# Altium integrated library Diodes - TVS.IntLib: 5379 symbols (part 70 of 122)
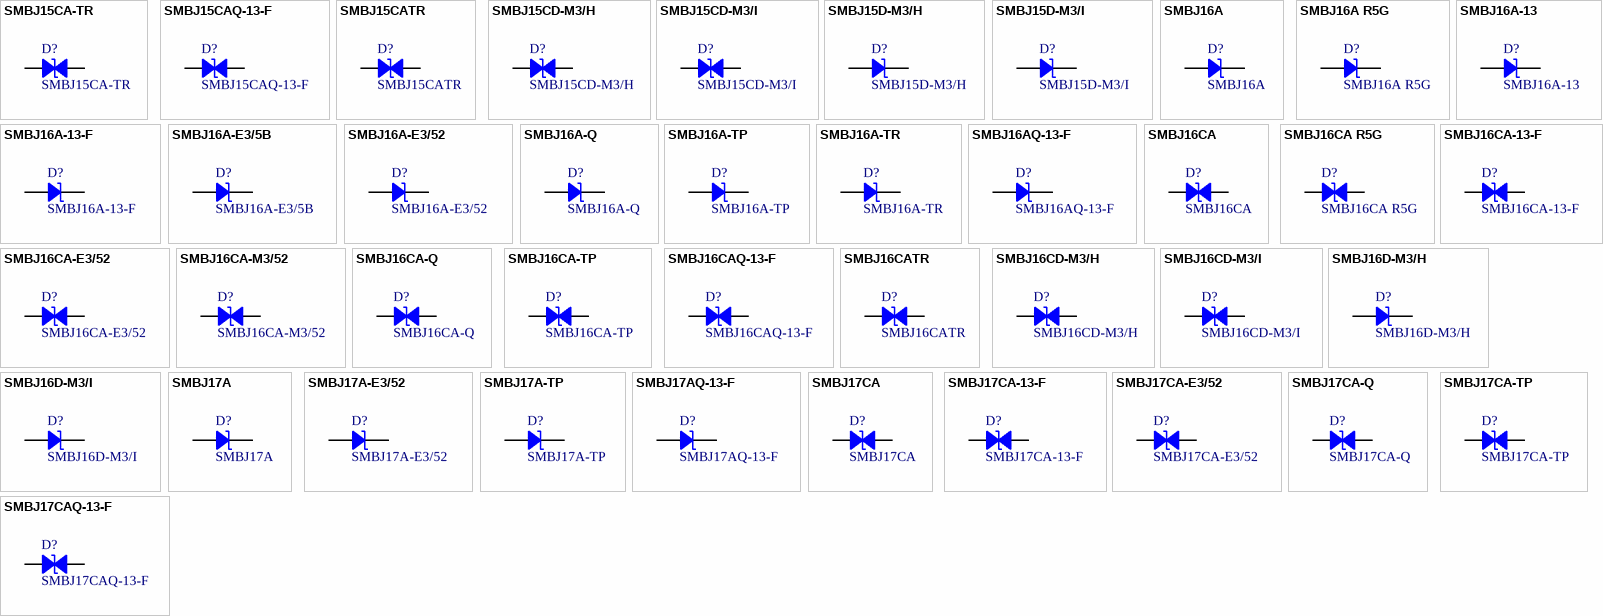
[diagram p203: symbols SMBJ15CA-TR to SMBJ17CAQ-13-F]

## SMBJ16A-Q
designator D?
TVS DIODE 16V 26V SMB; Manufacturer: Bourns Inc.; Current - Peak Pulse (10/1000µs): 23.1A; Power Line Protection: No; Power - Peak Pulse: 600W; Type: Zener; Unidirectional Channels: 1; Voltage - Breakdown (Min): 17.8V; Part Number: SMBJ16A-Q; Applications: Automotive; ComponentLink1Description: Datasheet; ComponentLink1URL: https://www.bourns.com/docs/Product-Datasheets/SMBJ-Q.pdf; ComponentLink2Description: DigiKey Link; ComponentLink2URL: http://digikey.com/product-detail/en/bourns-inc/SMBJ16A-Q/SMBJ16A-QCT-ND/10222710; LastUpdated: 9/2/2020 1:19:45 AM; Lifecycle Status: Active; Minimum Order: 1; Mounting Type: Surface Mount; Operating Temperature: -55°C ~ 150°C (TJ); Package / Case: DO-214AA, SMB; Packaging: TapeAndReel; PartId: 10727; Part Status: Active; Price: 0.14; Series: Automotive, AEC-Q101, SMBJ; Supplier 1: DigiKey; Supplier Part Number 1: SMBJ16A-QCT-ND; Supplier Device Package: SMB (DO-214AA); Voltage - Clamping (Max) @ Ipp: 26V; Voltage - Reverse Standoff (Typ): 16V
footprint DO214AA SMB
pins: 1, 2

## SMBJ16A-TP
designator D?
TVS DIODE 16V 26V DO214AA; Manufacturer: Micro Commercial Co; Current - Peak Pulse (10/1000µs): 23.1A; Power Line Protection: No; Power - Peak Pulse: 600W; Type: Zener; Unidirectional Channels: 1; Voltage - Breakdown (Min): 17.8V; Part Number: SMBJ16A-TP; Applications: General Purpose; ComponentLink1Description: Datasheet; ComponentLink1URL: https://www.mccsemi.com/pdf/Products/SMBJ5.0-SMBJ440CA(DO-214AA).pdf; ComponentLink2Description: DigiKey Link; ComponentLink2URL: http://digikey.com/product-detail/en/micro-commercial-co/SMBJ16A-TP/SMBJ16A-TPMSCT-ND/1200660; LastUpdated: 9/2/2020 1:19:48 AM; Lifecycle Status: Active; Minimum Order: 1; Mounting Type: Surface Mount; Operating Temperature: -55°C ~ 175°C (TJ); Package / Case: DO-214AA, SMB; Packaging: TapeAndReel; PartId: 11055; Part Status: Active; Price: 0.10; Series: -; Supplier 1: DigiKey; Supplier Part Number 1: SMBJ16A-TPMSCT-ND; Supplier Device Package: DO-214AA (SMB); Voltage - Clamping (Max) @ Ipp: 26V; Voltage - Reverse Standoff (Typ): 16V
footprint DO214AA SMB
pins: 1, 2

## SMBJ16A-TR
designator D?
TVS DIODE 16VWM 26VC SMB; Manufacturer: STMicroelectronics; Current - Peak Pulse (10/1000µs): 23.1A; Power Line Protection: No; Power - Peak Pulse: 600W; Type: Zener; Unidirectional Channels: 1; Voltage - Breakdown (Min): 17.8V; Voltage - Clamping (Max) @ Ipp: 26V; Voltage - Reverse Standoff (Typ): 16V; Part Number: SMBJ16A-TR; Applications: General Purpose; ComponentLink1Description: Datasheet; ComponentLink1URL: http://www.st.com/content/ccc/resource/technical/document/datasheet/19/78/91/39/07/cd/40/65/CD00001366.pdf/files/CD00001366.pdf/_jcr_content/translations/en.CD00001366.pdf; ComponentLink2Description: DigiKey Link; ComponentLink2URL: http://digikey.com/product-detail/en/stmicroelectronics/SMBJ16A-TR/497-4293-1-ND/725569; LastUpdated: 9/2/2020 1:19:50 AM; Lifecycle Status: Active; Minimum Order: 1; Mounting Type: Surface Mount; Operating Temperature: -55°C ~ 150°C (TJ); Package / Case: DO-214AA, SMB; Packaging: TapeAndReel; PartId: 11228; Part Status: Active; Price: 0.10; Series: SMBJ, TRANSIL™; Supplier 1: DigiKey; Supplier Part Number 1: 497-4293-1-ND; Supplier Device Package: SMB (DO-214AA)
footprint DO214AA SMB
pins: 1, 2

## SMBJ16AQ-13-F
designator D?
TRANSIENT VOLTAGE SUPPRESSOR,SMB; Manufacturer: Diodes Incorporated; Current - Peak Pulse (10/1000µs): 23.1A; Power Line Protection: No; Power - Peak Pulse: 600W; Type: Zener; Unidirectional Channels: 1; Voltage - Breakdown (Min): 17.8V; Voltage - Clamping (Max) @ Ipp: 26V; Voltage - Reverse Standoff (Typ): 16V; Part Number: SMBJ16AQ-13-F; Applications: Automotive; ComponentLink1Description: Datasheet; ComponentLink1URL: https://www.diodes.com/assets/Datasheets/ds40740.pdf; ComponentLink2Description: DigiKey Link; ComponentLink2URL: http://digikey.com/product-detail/en/diodes-incorporated/SMBJ16AQ-13-F/SMBJ16AQ-13-FDICT-ND/9738909; LastUpdated: 9/2/2020 1:19:49 AM; Lifecycle Status: Active; Minimum Order: 1; Mounting Type: Surface Mount; Operating Temperature: -55°C ~ 150°C (TJ); Package / Case: DO-214AA, SMB; Packaging: TapeAndReel; PartId: 11168; Part Status: Active; Price: 0.13; Series: Automotive, AEC-Q101; Supplier 1: DigiKey; Supplier Part Number 1: SMBJ16AQ-13-FDICT-ND; Supplier Device Package: SMB
footprint DO214AA SMB
pins: 1, 2

## SMBJ16CA
designator D?
TVS DIODE 16V 26V SMB; Manufacturer: Bourns Inc.; Bidirectional Channels: 1; Current - Peak Pulse (10/1000µs): 23.1A; Power Line Protection: No; Power - Peak Pulse: 600W; Type: Zener; Voltage - Breakdown (Min): 17.8V; Part Number: SMBJ16CA; Applications: General Purpose; ComponentLink1Description: Datasheet; ComponentLink1URL: https://www.bourns.com/docs/Product-Datasheets/SMBJ.pdf; ComponentLink2Description: DigiKey Link; ComponentLink2URL: http://digikey.com/product-detail/en/bourns-inc/SMBJ16CA/SMBJ16CABCT-ND/2254157; LastUpdated: 9/2/2020 1:28:19 AM; Lifecycle Status: Active; Minimum Order: 1; Mounting Type: Surface Mount; Operating Temperature: -55°C ~ 150°C (TJ); Package / Case: DO-214AA, SMB; Packaging: TapeAndReel; PartId: 9269; Part Status: Active; Price: 0.10; Series: SMBJ; Supplier 1: DigiKey; Supplier Part Number 1: SMBJ16CABCT-ND; Supplier Device Package: SMB (DO-214AA); Voltage - Clamping (Max) @ Ipp: 26V; Voltage - Reverse Standoff (Typ): 16V
footprint DO214AA SMB
pins: 1, 2

## SMBJ16CA R5G
designator D?
TVS DIODE 16V 26V DO214AA; Manufacturer: Taiwan Semiconductor Corporation; Bidirectional Channels: 1; Current - Peak Pulse (10/1000µs): 24.2A; Power Line Protection: No; Power - Peak Pulse: 600W; Type: Zener; Voltage - Breakdown (Min): 17.8V; Part Number: SMBJ16CA R5G; Applications: General Purpose; ComponentLink1Description: Datasheet; ComponentLink1URL: https://www.taiwansemi.com/products/datasheet/SMBJ5V0CA_F%20SERIES_A1806.pdf; ComponentLink2Description: DigiKey Link; ComponentLink2URL: http://digikey.com/product-detail/en/taiwan-semiconductor-corporation/SMBJ16CA-R5G/SMBJ16CAR5GCT-ND/7359084; LastUpdated: 9/2/2020 1:28:19 AM; Lifecycle Status: Active; Minimum Order: 0; Mounting Type: Surface Mount; Operating Temperature: -55°C ~ 150°C (TJ); Package / Case: DO-214AA, SMB; Packaging: TapeAndReel; PartId: 9232; Part Status: Active; Price: 0.20; Series: SMBJ; Supplier 1: DigiKey; Supplier Part Number 1: SMBJ16CAR5GCT-ND; Supplier Device Package: DO-214AA (SMB); Voltage - Clamping (Max) @ Ipp: 26V; Voltage - Reverse Standoff (Typ): 16V
footprint DO214AA SMB
pins: 1, 2

## SMBJ16CA-13-F
designator D?
TVS DIODE 16V 26V SMB; Manufacturer: Diodes Incorporated; Bidirectional Channels: 1; Current - Peak Pulse (10/1000µs): 23.1A; Power Line Protection: No; Power - Peak Pulse: 600W; Type: Zener; Voltage - Breakdown (Min): 17.8V; Part Number: SMBJ16CA-13-F; Applications: General Purpose; ComponentLink1Description: Datasheet; ComponentLink1URL: https://www.diodes.com/assets/Datasheets/ds19002.pdf; ComponentLink2Description: DigiKey Link; ComponentLink2URL: http://digikey.com/product-detail/en/diodes-incorporated/SMBJ16CA-13-F/SMBJ16CA-FDICT-ND/816063; LastUpdated: 9/2/2020 1:28:19 AM; Lifecycle Status: Active; Minimum Order: 1; Mounting Type: Surface Mount; Operating Temperature: -55°C ~ 150°C (TJ); Package / Case: DO-214AA, SMB; Packaging: TapeAndReel; PartId: 9285; Part Status: Active; Price: 0.10; Series: SMBJ; Supplier 1: DigiKey; Supplier Part Number 1: SMBJ16CA-FDICT-ND; Supplier Device Package: SMB; Voltage - Clamping (Max) @ Ipp: 26V; Voltage - Reverse Standoff (Typ): 16V
footprint DO214AA SMB
pins: 1, 2

## SMBJ16CA-E3/52
designator D?
TVS DIODE 16V 26V DO214AA; Manufacturer: Vishay Semiconductor Diodes Division; Bidirectional Channels: 1; Current - Peak Pulse (10/1000µs): 23.1A; Power Line Protection: No; Power - Peak Pulse: 600W; Type: Zener; Voltage - Breakdown (Min): 17.8V; Part Number: SMBJ16CA-E3/52; Applications: General Purpose; ComponentLink1Description: Datasheet; ComponentLink1URL: http://www.vishay.com/docs/88392/smbj.pdf; ComponentLink2Description: DigiKey Link; ComponentLink2URL: http://digikey.com/product-detail/en/vishay-semiconductor-diodes-division/SMBJ16CA-E3-52/SMBJ16CA-E3-52GICT-ND/2413394; LastUpdated: 9/2/2020 1:28:21 AM; Lifecycle Status: Active; Minimum Order: 1; Mounting Type: Surface Mount; Operating Temperature: -55°C ~ 150°C (TJ); Package / Case: DO-214AA, SMB; Packaging: TapeAndReel; PartId: 9512; Part Status: Active; Price: 0.14; Series: TransZorb®; Supplier 1: DigiKey; Supplier Part Number 1: SMBJ16CA-E3/52GICT-ND; Supplier Device Package: DO-214AA (SMBJ); Voltage - Clamping (Max) @ Ipp: 26V; Voltage - Reverse Standoff (Typ): 16V
footprint DO214AA SMB
pins: 1, 2

## SMBJ16CA-M3/52
designator D?
TVS DIODE 16V 26V DO214AA; Manufacturer: Vishay Semiconductor Diodes Division; Bidirectional Channels: 1; Current - Peak Pulse (10/1000µs): 23.1A; Power Line Protection: No; Power - Peak Pulse: 600W; Type: Zener; Voltage - Breakdown (Min): 17.8V; Part Number: SMBJ16CA-M3/52; Applications: General Purpose; ComponentLink1Description: Datasheet; ComponentLink1URL: http://www.vishay.com/docs/88392/smbj.pdf; ComponentLink2Description: DigiKey Link; ComponentLink2URL: http://digikey.com/product-detail/en/vishay-semiconductor-diodes-division/SMBJ16CA-M3-52/SMBJ16CA-M3-52GICT-ND/4990353; LastUpdated: 9/2/2020 1:28:21 AM; Lifecycle Status: Active; Minimum Order: 1; Mounting Type: Surface Mount; Operating Temperature: -55°C ~ 150°C (TJ); Package / Case: DO-214AA, SMB; Packaging: TapeAndReel; PartId: 9581; Part Status: Active; Price: 0.29; Series: TransZorb®; Supplier 1: DigiKey; Supplier Part Number 1: SMBJ16CA-M3/52GICT-ND; Supplier Device Package: DO-214AA (SMBJ); Voltage - Clamping (Max) @ Ipp: 26V; Voltage - Reverse Standoff (Typ): 16V
footprint DO214AA SMB
pins: 1, 2

## SMBJ16CA-Q
designator D?
TVS DIODE 16V 26V SMB; Manufacturer: Bourns Inc.; Bidirectional Channels: 1; Current - Peak Pulse (10/1000µs): 23.1A; Power Line Protection: No; Power - Peak Pulse: 600W; Type: Zener; Voltage - Breakdown (Min): 17.8V; Part Number: SMBJ16CA-Q; Applications: Automotive; ComponentLink1Description: Datasheet; ComponentLink1URL: https://www.bourns.com/docs/Product-Datasheets/SMBJ-Q.pdf; ComponentLink2Description: DigiKey Link; ComponentLink2URL: http://digikey.com/product-detail/en/bourns-inc/SMBJ16CA-Q/SMBJ16CA-QCT-ND/10222711; LastUpdated: 9/2/2020 1:28:21 AM; Lifecycle Status: Active; Minimum Order: 1; Mounting Type: Surface Mount; Operating Temperature: -55°C ~ 150°C (TJ); Package / Case: DO-214AA, SMB; Packaging: TapeAndReel; PartId: 9545; Part Status: Active; Price: 0.15; Series: Automotive, AEC-Q101, SMBJ; Supplier 1: DigiKey; Supplier Part Number 1: SMBJ16CA-QCT-ND; Supplier Device Package: SMB (DO-214AA); Voltage - Clamping (Max) @ Ipp: 26V; Voltage - Reverse Standoff (Typ): 16V
footprint DO214AA SMB
pins: 1, 2

## SMBJ16CA-TP
designator D?
TVS DIODE 16V 26V DO214AA; Manufacturer: Micro Commercial Co; Bidirectional Channels: 1; Current - Peak Pulse (10/1000µs): 23.1A; Power Line Protection: No; Power - Peak Pulse: 600W; Type: Zener; Voltage - Breakdown (Min): 17.8V; Part Number: SMBJ16CA-TP; Applications: General Purpose; ComponentLink1Description: Datasheet; ComponentLink1URL: https://www.mccsemi.com/pdf/Products/SMBJ5.0-SMBJ440CA(DO-214AA).pdf; ComponentLink2Description: DigiKey Link; ComponentLink2URL: http://digikey.com/product-detail/en/micro-commercial-co/SMBJ16CA-TP/SMBJ16CA-TPMSCT-ND/1200661; LastUpdated: 9/2/2020 1:28:18 AM; Lifecycle Status: Active; Minimum Order: 1; Mounting Type: Surface Mount; Operating Temperature: -55°C ~ 175°C (TJ); Package / Case: DO-214AA, SMB; Packaging: TapeAndReel; PartId: 9196; Part Status: Active; Price: 0.10; Series: -; Supplier 1: DigiKey; Supplier Part Number 1: SMBJ16CA-TPMSCT-ND; Supplier Device Package: DO-214AA (SMB); Voltage - Clamping (Max) @ Ipp: 26V; Voltage - Reverse Standoff (Typ): 16V
footprint DO214AA SMB
pins: 1, 2

## SMBJ16CAQ-13-F
designator D?
TRANSIENT VOLTAGE SUPPRESSOR,SMB; Manufacturer: Diodes Incorporated; Bidirectional Channels: 1; Current - Peak Pulse (10/1000µs): 23.1A; Power Line Protection: No; Power - Peak Pulse: 600W; Type: Zener; Voltage - Breakdown (Min): 17.8V; Voltage - Clamping (Max) @ Ipp: 26V; Voltage - Reverse Standoff (Typ): 16V; Part Number: SMBJ16CAQ-13-F; Applications: Automotive; ComponentLink1Description: Datasheet; ComponentLink1URL: https://www.diodes.com/assets/Datasheets/ds40740.pdf; ComponentLink2Description: DigiKey Link; ComponentLink2URL: http://digikey.com/product-detail/en/diodes-incorporated/SMBJ16CAQ-13-F/SMBJ16CAQ-13-FDICT-ND/9738922; LastUpdated: 9/2/2020 1:28:17 AM; Lifecycle Status: Active; Minimum Order: 1; Mounting Type: Surface Mount; Operating Temperature: -55°C ~ 150°C (TJ); Package / Case: DO-214AA, SMB; Packaging: TapeAndReel; PartId: 9072; Part Status: Active; Price: 0.14; Series: Automotive, AEC-Q101; Supplier 1: DigiKey; Supplier Part Number 1: SMBJ16CAQ-13-FDICT-ND; Supplier Device Package: SMB
footprint DO214AA SMB
pins: 1, 2

## SMBJ16CATR
designator D?
TVS DIODE 16V 26V SMB; Manufacturer: SMC Diode Solutions; Bidirectional Channels: 1; Current - Peak Pulse (10/1000µs): 23.1A; Power Line Protection: No; Power - Peak Pulse: 600W; Type: Zener; Voltage - Breakdown (Min): 17.8V; Part Number: SMBJ16CATR; Applications: General Purpose; ComponentLink1Description: Datasheet; ComponentLink1URL: http://www.smc-diodes.com/propdf/SMBJ%20SERIES%20N0193%20REV.D.pdf; ComponentLink2Description: DigiKey Link; ComponentLink2URL: http://digikey.com/product-detail/en/smc-diode-solutions/SMBJ16CATR/1655-2284-1-ND/10384674; LastUpdated: 9/2/2020 1:28:19 AM; Lifecycle Status: Active; Minimum Order: 1; Mounting Type: Surface Mount; Operating Temperature: -55°C ~ 150°C (TJ); Package / Case: DO-214AA, SMB; Packaging: TapeAndReel; PartId: 9237; Part Status: Active; Price: 0.09; Series: -; Supplier 1: DigiKey; Supplier Part Number 1: 1655-2284-1-ND; Supplier Device Package: SMB (DO-214AA); Voltage - Clamping (Max) @ Ipp: 26V; Voltage - Reverse Standoff (Typ): 16V
footprint DO214AA SMB
pins: 1, 2

## SMBJ16CD-M3/H
designator D?
TVS DIODE 16V 25.6V DO214AA; Manufacturer: Vishay Semiconductor Diodes Division; Bidirectional Channels: 1; Current - Peak Pulse (10/1000µs): 23.4A; Power Line Protection: No; Power - Peak Pulse: 600W; Type: Zener; Voltage - Breakdown (Min): 18.1V; Part Number: SMBJ16CD-M3/H; Applications: General Purpose; ComponentLink1Description: Datasheet; ComponentLink1URL: http://www.vishay.com/docs/87606/87606.pdf; ComponentLink2Description: DigiKey Link; ComponentLink2URL: http://digikey.com/product-detail/en/vishay-semiconductor-diodes-division/SMBJ16CD-M3-H/SMBJ16CD-M3-HGICT-ND/5880119; LastUpdated: 9/2/2020 1:28:20 AM; Lifecycle Status: Active; Minimum Order: 1; Mounting Type: Surface Mount; Operating Temperature: -55°C ~ 150°C (TJ); Package / Case: DO-214AA, SMB; Packaging: TapeAndReel; PartId: 9348; Part Status: Active; Price: 0.20; Series: TransZorb®; Supplier 1: DigiKey; Supplier Part Number 1: SMBJ16CD-M3/HGICT-ND; Supplier Device Package: DO-214AA (SMBJ); Voltage - Clamping (Max) @ Ipp: 25.6V; Voltage - Reverse Standoff (Typ): 16V
footprint DO214AA SMB
pins: 1, 2

## SMBJ16CD-M3/I
designator D?
TVS DIODE 16V 25.6V DO214AA; Manufacturer: Vishay Semiconductor Diodes Division; Bidirectional Channels: 1; Current - Peak Pulse (10/1000µs): 23.4A; Power Line Protection: No; Power - Peak Pulse: 600W; Type: Zener; Voltage - Breakdown (Min): 18.1V; Part Number: SMBJ16CD-M3/I; Applications: General Purpose; ComponentLink1Description: Datasheet; ComponentLink1URL: http://www.vishay.com/docs/87606/87606.pdf; ComponentLink2Description: DigiKey Link; ComponentLink2URL: http://digikey.com/product-detail/en/vishay-semiconductor-diodes-division/SMBJ16CD-M3-I/SMBJ16CD-M3-IGICT-ND/9648415; LastUpdated: 9/2/2020 1:28:21 AM; Lifecycle Status: Active; Minimum Order: 1; Mounting Type: Surface Mount; Operating Temperature: -55°C ~ 150°C (TJ); Package / Case: DO-214AA, SMB; Packaging: TapeAndReel; PartId: 9490; Part Status: Active; Price: 0.13; Series: TransZorb®; Supplier 1: DigiKey; Supplier Part Number 1: SMBJ16CD-M3/IGICT-ND; Supplier Device Package: DO-214AA (SMBJ); Voltage - Clamping (Max) @ Ipp: 25.6V; Voltage - Reverse Standoff (Typ): 16V
footprint DO214AA SMB
pins: 1, 2

## SMBJ16D-M3/H
designator D?
TVS DIODE 16V 25.6V DO214AA; Manufacturer: Vishay Semiconductor Diodes Division; Current - Peak Pulse (10/1000µs): 23.4A; Power Line Protection: No; Power - Peak Pulse: 600W; Type: Zener; Unidirectional Channels: 1; Voltage - Breakdown (Min): 18.1V; Part Number: SMBJ16D-M3/H; Applications: General Purpose; ComponentLink1Description: Datasheet; ComponentLink1URL: http://www.vishay.com/docs/87606/87606.pdf; ComponentLink2Description: DigiKey Link; ComponentLink2URL: http://digikey.com/product-detail/en/vishay-semiconductor-diodes-division/SMBJ16D-M3-H/SMBJ16D-M3-HGICT-ND/5253064; LastUpdated: 9/2/2020 1:19:43 AM; Lifecycle Status: Active; Minimum Order: 1; Mounting Type: Surface Mount; Operating Temperature: -55°C ~ 150°C (TJ); Package / Case: DO-214AA, SMB; Packaging: TapeAndReel; PartId: 10609; Part Status: Active; Price: 0.15; Series: TransZorb®; Supplier 1: DigiKey; Supplier Part Number 1: SMBJ16D-M3/HGICT-ND; Supplier Device Package: DO-214AA (SMBJ); Voltage - Clamping (Max) @ Ipp: 25.6V; Voltage - Reverse Standoff (Typ): 16V
footprint DO214AA SMB
pins: 1, 2

## SMBJ16D-M3/I
designator D?
TVS DIODE 16V 25.6V DO214AA; Manufacturer: Vishay Semiconductor Diodes Division; Current - Peak Pulse (10/1000µs): 23.4A; Power Line Protection: No; Power - Peak Pulse: 600W; Type: Zener; Unidirectional Channels: 1; Voltage - Breakdown (Min): 18.1V; Part Number: SMBJ16D-M3/I; Applications: General Purpose; ComponentLink1Description: Datasheet; ComponentLink1URL: http://www.vishay.com/docs/87606/87606.pdf; ComponentLink2Description: DigiKey Link; ComponentLink2URL: http://digikey.com/product-detail/en/vishay-semiconductor-diodes-division/SMBJ16D-M3-I/SMBJ16D-M3-IGICT-ND/9648416; LastUpdated: 9/2/2020 1:19:47 AM; Lifecycle Status: Active; Minimum Order: 1; Mounting Type: Surface Mount; Operating Temperature: -55°C ~ 150°C (TJ); Package / Case: DO-214AA, SMB; Packaging: TapeAndReel; PartId: 10942; Part Status: Active; Price: 0.11; Series: TransZorb®; Supplier 1: DigiKey; Supplier Part Number 1: SMBJ16D-M3/IGICT-ND; Supplier Device Package: DO-214AA (SMBJ); Voltage - Clamping (Max) @ Ipp: 25.6V; Voltage - Reverse Standoff (Typ): 16V
footprint DO214AA SMB
pins: 1, 2

## SMBJ17A
designator D?
TVS DIODE 17V 27.6V DO214AA; Manufacturer: Taiwan Semiconductor Corporation; Current - Peak Pulse (10/1000µs): 21.7A; Power Line Protection: No; Power - Peak Pulse: 600W; Type: Zener; Unidirectional Channels: 1; Voltage - Breakdown (Min): 18.9V; Part Number: SMBJ17A; Applications: General Purpose; ComponentLink1Description: Datasheet; ComponentLink1URL: https://www.taiwansemi.com/products/datasheet/SMBJ%20SERIES_P1812.pdf; ComponentLink2Description: DigiKey Link; ComponentLink2URL: http://digikey.com/product-detail/en/taiwan-semiconductor-corporation/SMBJ17A/SMBJ17AFSCT-ND/3907891; LastUpdated: 9/2/2020 1:19:49 AM; Lifecycle Status: Active; Minimum Order: 1; Mounting Type: Surface Mount; Operating Temperature: -55°C ~ 150°C (TJ); Package / Case: DO-214AA, SMB; Packaging: TapeAndReel; PartId: 11181; Part Status: Active; Price: 0.13; Series: SMBJ; Supplier 1: DigiKey; Supplier Part Number 1: SMBJ17AFSCT-ND; Supplier Device Package: DO-214AA (SMB); Voltage - Clamping (Max) @ Ipp: 27.6V; Voltage - Reverse Standoff (Typ): 17V
footprint DO214AA SMB
pins: 1, 2

## SMBJ17A-E3/52
designator D?
TVS DIODE 17V 27.6V DO214AA; Manufacturer: Vishay Semiconductor Diodes Division; Current - Peak Pulse (10/1000µs): 21.7A; Power Line Protection: No; Power - Peak Pulse: 600W; Type: Zener; Unidirectional Channels: 1; Voltage - Breakdown (Min): 18.9V; Part Number: SMBJ17A-E3/52; Applications: General Purpose; ComponentLink1Description: Datasheet; ComponentLink1URL: http://www.vishay.com/docs/88392/smbj.pdf; ComponentLink2Description: DigiKey Link; ComponentLink2URL: http://digikey.com/product-detail/en/vishay-semiconductor-diodes-division/SMBJ17A-E3-52/SMBJ17A-E3-52GICT-ND/2413401; LastUpdated: 9/2/2020 1:19:49 AM; Lifecycle Status: Active; Minimum Order: 1; Mounting Type: Surface Mount; Operating Temperature: -55°C ~ 150°C (TJ); Package / Case: DO-214AA, SMB; Packaging: TapeAndReel; PartId: 11104; Part Status: Active; Price: 0.15; Series: TransZorb®; Supplier 1: DigiKey; Supplier Part Number 1: SMBJ17A-E3/52GICT-ND; Supplier Device Package: DO-214AA (SMBJ); Voltage - Clamping (Max) @ Ipp: 27.6V; Voltage - Reverse Standoff (Typ): 17V
footprint DO214AA SMB
pins: 1, 2

## SMBJ17A-TP
designator D?
TVS DIODE 17V 27.6V DO214AA; Manufacturer: Micro Commercial Co; Current - Peak Pulse (10/1000µs): 21.7A; Power Line Protection: No; Power - Peak Pulse: 600W; Type: Zener; Unidirectional Channels: 1; Voltage - Breakdown (Min): 18.9V; Part Number: SMBJ17A-TP; Applications: General Purpose; ComponentLink1Description: Datasheet; ComponentLink1URL: https://www.mccsemi.com/pdf/Products/SMBJ5.0-SMBJ440CA(DO-214AA).pdf; ComponentLink2Description: DigiKey Link; ComponentLink2URL: http://digikey.com/product-detail/en/micro-commercial-co/SMBJ17A-TP/SMBJ17A-TPMSCT-ND/1200662; LastUpdated: 9/2/2020 1:19:50 AM; Lifecycle Status: Active; Minimum Order: 1; Mounting Type: Surface Mount; Operating Temperature: -55°C ~ 175°C (TJ); Package / Case: DO-214AA, SMB; Packaging: TapeAndReel; PartId: 11272; Part Status: Active; Price: 0.10; Series: -; Supplier 1: DigiKey; Supplier Part Number 1: SMBJ17A-TPMSCT-ND; Supplier Device Package: DO-214AA (SMB); Voltage - Clamping (Max) @ Ipp: 27.6V; Voltage - Reverse Standoff (Typ): 17V
footprint DO214AA SMB
pins: 1, 2

## SMBJ17AQ-13-F
designator D?
TRANSIENT VOLTAGE SUPPRESSOR,SMB; Manufacturer: Diodes Incorporated; Current - Peak Pulse (10/1000µs): 21.7A; Power Line Protection: No; Power - Peak Pulse: 600W; Type: Zener; Unidirectional Channels: 1; Voltage - Breakdown (Min): 18.9V; Voltage - Clamping (Max) @ Ipp: 27.6V; Voltage - Reverse Standoff (Typ): 17V; Part Number: SMBJ17AQ-13-F; Applications: Automotive; ComponentLink1Description: Datasheet; ComponentLink1URL: https://www.diodes.com/assets/Datasheets/ds40740.pdf; ComponentLink2Description: DigiKey Link; ComponentLink2URL: http://digikey.com/product-detail/en/diodes-incorporated/SMBJ17AQ-13-F/SMBJ17AQ-13-FDICT-ND/9738910; LastUpdated: 9/2/2020 1:19:49 AM; Lifecycle Status: Active; Minimum Order: 1; Mounting Type: Surface Mount; Operating Temperature: -55°C ~ 150°C (TJ); Package / Case: DO-214AA, SMB; Packaging: TapeAndReel; PartId: 11169; Part Status: Active; Price: 0.13; Series: Automotive, AEC-Q101; Supplier 1: DigiKey; Supplier Part Number 1: SMBJ17AQ-13-FDICT-ND; Supplier Device Package: SMB
footprint DO214AA SMB
pins: 1, 2

## SMBJ17CA
designator D?
TVS DIODE 17V 27.6V SMB; Manufacturer: Bourns Inc.; Bidirectional Channels: 1; Current - Peak Pulse (10/1000µs): 21.8A; Power Line Protection: No; Power - Peak Pulse: 600W; Type: Zener; Voltage - Breakdown (Min): 18.9V; Part Number: SMBJ17CA; Applications: General Purpose; ComponentLink1Description: Datasheet; ComponentLink1URL: https://www.bourns.com/docs/Product-Datasheets/SMBJ.pdf; ComponentLink2Description: DigiKey Link; ComponentLink2URL: http://digikey.com/product-detail/en/bourns-inc/SMBJ17CA/SMBJ17CABCT-ND/2254183; LastUpdated: 9/2/2020 1:28:15 AM; Lifecycle Status: Active; Minimum Order: 1; Mounting Type: Surface Mount; Operating Temperature: -55°C ~ 150°C (TJ); Package / Case: DO-214AA, SMB; Packaging: TapeAndReel; PartId: 8886; Part Status: Active; Price: 0.10; Series: SMBJ; Supplier 1: DigiKey; Supplier Part Number 1: SMBJ17CABCT-ND; Supplier Device Package: SMB (DO-214AA); Voltage - Clamping (Max) @ Ipp: 27.6V; Voltage - Reverse Standoff (Typ): 17V
footprint DO214AA SMB
pins: 1, 2

## SMBJ17CA-13-F
designator D?
TVS DIODE 17V 27.6V SMB; Manufacturer: Diodes Incorporated; Bidirectional Channels: 1; Current - Peak Pulse (10/1000µs): 21.7A; Power Line Protection: No; Power - Peak Pulse: 600W; Type: Zener; Voltage - Breakdown (Min): 18.9V; Part Number: SMBJ17CA-13-F; Applications: General Purpose; ComponentLink1Description: Datasheet; ComponentLink1URL: https://www.diodes.com/assets/Datasheets/ds19002.pdf; ComponentLink2Description: DigiKey Link; ComponentLink2URL: http://digikey.com/product-detail/en/diodes-incorporated/SMBJ17CA-13-F/SMBJ17CA-FDICT-ND/816066; LastUpdated: 9/2/2020 1:28:19 AM; Lifecycle Status: Active; Minimum Order: 1; Mounting Type: Surface Mount; Operating Temperature: -55°C ~ 150°C (TJ); Package / Case: DO-214AA, SMB; Packaging: TapeAndReel; PartId: 9295; Part Status: Active; Price: 0.10; Series: SMBJ; Supplier 1: DigiKey; Supplier Part Number 1: SMBJ17CA-FDICT-ND; Supplier Device Package: SMB; Voltage - Clamping (Max) @ Ipp: 27.6V; Voltage - Reverse Standoff (Typ): 17V
footprint DO214AA SMB
pins: 1, 2

## SMBJ17CA-E3/52
designator D?
TVS DIODE 17V 27.6V DO214AA; Manufacturer: Vishay Semiconductor Diodes Division; Bidirectional Channels: 1; Current - Peak Pulse (10/1000µs): 21.7A; Power Line Protection: No; Power - Peak Pulse: 600W; Type: Zener; Voltage - Breakdown (Min): 18.9V; Part Number: SMBJ17CA-E3/52; Applications: General Purpose; ComponentLink1Description: Datasheet; ComponentLink1URL: http://www.vishay.com/docs/88392/smbj.pdf; ComponentLink2Description: DigiKey Link; ComponentLink2URL: http://digikey.com/product-detail/en/vishay-semiconductor-diodes-division/SMBJ17CA-E3-52/SMBJ17CA-E3-52GICT-ND/2413458; LastUpdated: 9/2/2020 1:28:20 AM; Lifecycle Status: Active; Minimum Order: 1; Mounting Type: Surface Mount; Operating Temperature: -55°C ~ 150°C (TJ); Package / Case: DO-214AA, SMB; Packaging: TapeAndReel; PartId: 9356; Part Status: Active; Price: 0.19; Series: TransZorb®; Supplier 1: DigiKey; Supplier Part Number 1: SMBJ17CA-E3/52GICT-ND; Supplier Device Package: DO-214AA (SMBJ); Voltage - Clamping (Max) @ Ipp: 27.6V; Voltage - Reverse Standoff (Typ): 17V
footprint DO214AA SMB
pins: 1, 2

## SMBJ17CA-Q
designator D?
TVS DIODE 17V 27.6V SMB; Manufacturer: Bourns Inc.; Bidirectional Channels: 1; Current - Peak Pulse (10/1000µs): 21.8A; Power Line Protection: No; Power - Peak Pulse: 600W; Type: Zener; Voltage - Breakdown (Min): 18.9V; Part Number: SMBJ17CA-Q; Applications: Automotive; ComponentLink1Description: Datasheet; ComponentLink1URL: https://www.bourns.com/docs/Product-Datasheets/SMBJ-Q.pdf; ComponentLink2Description: DigiKey Link; ComponentLink2URL: http://digikey.com/product-detail/en/bourns-inc/SMBJ17CA-Q/SMBJ17CA-QCT-ND/10222712; LastUpdated: 9/2/2020 1:28:17 AM; Lifecycle Status: Active; Minimum Order: 1; Mounting Type: Surface Mount; Operating Temperature: -55°C ~ 150°C (TJ); Package / Case: DO-214AA, SMB; Packaging: TapeAndReel; PartId: 9061; Part Status: Active; Price: 0.15; Series: Automotive, AEC-Q101, SMBJ; Supplier 1: DigiKey; Supplier Part Number 1: SMBJ17CA-QCT-ND; Supplier Device Package: SMB (DO-214AA); Voltage - Clamping (Max) @ Ipp: 27.6V; Voltage - Reverse Standoff (Typ): 17V
footprint DO214AA SMB
pins: 1, 2

## SMBJ17CA-TP
designator D?
TVS DIODE 17V 27.6V DO214AA; Manufacturer: Micro Commercial Co; Bidirectional Channels: 1; Current - Peak Pulse (10/1000µs): 21.7A; Power Line Protection: No; Power - Peak Pulse: 600W; Type: Zener; Voltage - Breakdown (Min): 18.9V; Part Number: SMBJ17CA-TP; Applications: General Purpose; ComponentLink1Description: Datasheet; ComponentLink1URL: https://www.mccsemi.com/pdf/Products/SMBJ5.0-SMBJ440CA(DO-214AA).pdf; ComponentLink2Description: DigiKey Link; ComponentLink2URL: http://digikey.com/product-detail/en/micro-commercial-co/SMBJ17CA-TP/SMBJ17CA-TPMSCT-ND/1200663; LastUpdated: 9/2/2020 1:28:18 AM; Lifecycle Status: Active; Minimum Order: 1; Mounting Type: Surface Mount; Operating Temperature: -55°C ~ 175°C (TJ); Package / Case: DO-214AA, SMB; Packaging: TapeAndReel; PartId: 9188; Part Status: Active; Price: 0.10; Series: -; Supplier 1: DigiKey; Supplier Part Number 1: SMBJ17CA-TPMSCT-ND; Supplier Device Package: DO-214AA (SMB); Voltage - Clamping (Max) @ Ipp: 27.6V; Voltage - Reverse Standoff (Typ): 17V
footprint DO214AA SMB
pins: 1, 2

## SMBJ17CAQ-13-F
designator D?
TRANSIENT VOLTAGE SUPPRESSOR,SMB; Manufacturer: Diodes Incorporated; Bidirectional Channels: 1; Current - Peak Pulse (10/1000µs): 21.7A; Power Line Protection: No; Power - Peak Pulse: 600W; Type: Zener; Voltage - Breakdown (Min): 18.9V; Voltage - Clamping (Max) @ Ipp: 27.6V; Voltage - Reverse Standoff (Typ): 17V; Part Number: SMBJ17CAQ-13-F; Applications: Automotive; ComponentLink1Description: Datasheet; ComponentLink1URL: https://www.diodes.com/assets/Datasheets/ds40740.pdf; ComponentLink2Description: DigiKey Link; ComponentLink2URL: http://digikey.com/product-detail/en/diodes-incorporated/SMBJ17CAQ-13-F/SMBJ17CAQ-13-FDICT-ND/9738923; LastUpdated: 9/2/2020 1:28:17 AM; Lifecycle Status: Active; Minimum Order: 1; Mounting Type: Surface Mount; Operating Temperature: -55°C ~ 150°C (TJ); Package / Case: DO-214AA, SMB; Packaging: TapeAndReel; PartId: 9071; Part Status: Active; Price: 0.14; Series: Automotive, AEC-Q101; Supplier 1: DigiKey; Supplier Part Number 1: SMBJ17CAQ-13-FDICT-ND; Supplier Device Package: SMB
footprint DO214AA SMB
pins: 1, 2

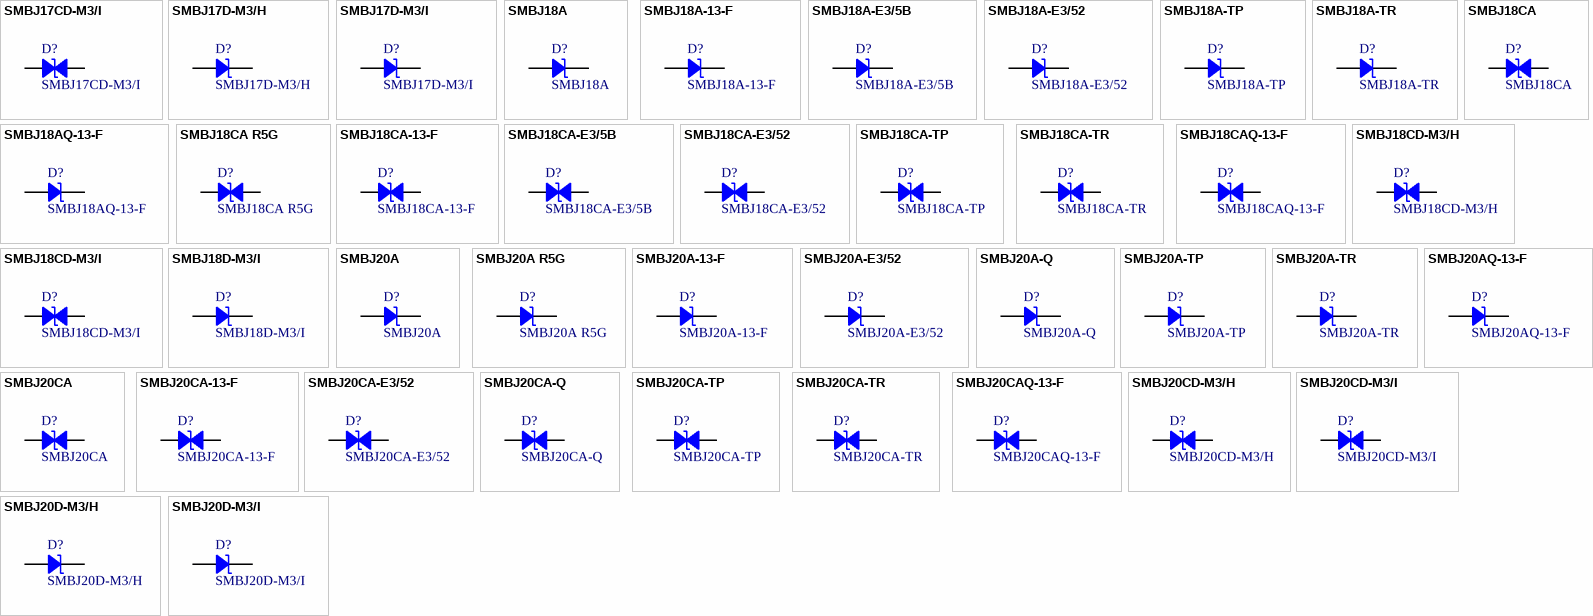
[diagram p77: symbols SMBJ17CD-M3/I to SMBJ20D-M3/I]

## SMBJ17CD-M3/I
designator D?
TVS DIODE 17V 27.2V DO214AA; Manufacturer: Vishay Semiconductor Diodes Division; Bidirectional Channels: 1; Current - Peak Pulse (10/1000µs): 22.1A; Power Line Protection: No; Power - Peak Pulse: 600W; Type: Zener; Voltage - Breakdown (Min): 19.2V; Part Number: SMBJ17CD-M3/I; Applications: General Purpose; ComponentLink1Description: Datasheet; ComponentLink1URL: http://www.vishay.com/docs/87606/87606.pdf; ComponentLink2Description: DigiKey Link; ComponentLink2URL: http://digikey.com/product-detail/en/vishay-semiconductor-diodes-division/SMBJ17CD-M3-I/SMBJ17CD-M3-IGICT-ND/9648418; LastUpdated: 9/2/2020 1:28:21 AM; Lifecycle Status: Active; Minimum Order: 1; Mounting Type: Surface Mount; Operating Temperature: -55°C ~ 150°C (TJ); Package / Case: DO-214AA, SMB; Packaging: TapeAndReel; PartId: 9483; Part Status: Active; Price: 0.13; Series: TransZorb®; Supplier 1: DigiKey; Supplier Part Number 1: SMBJ17CD-M3/IGICT-ND; Supplier Device Package: DO-214AA (SMBJ); Voltage - Clamping (Max) @ Ipp: 27.2V; Voltage - Reverse Standoff (Typ): 17V
footprint DO214AA SMB
pins: 1, 2

## SMBJ17D-M3/H
designator D?
TVS DIODE 17V 27.2V DO214AA; Manufacturer: Vishay Semiconductor Diodes Division; Current - Peak Pulse (10/1000µs): 22.1A; Power Line Protection: No; Power - Peak Pulse: 600W; Type: Zener; Unidirectional Channels: 1; Voltage - Breakdown (Min): 19.2V; Part Number: SMBJ17D-M3/H; Applications: General Purpose; ComponentLink1Description: Datasheet; ComponentLink1URL: http://www.vishay.com/docs/87606/87606.pdf; ComponentLink2Description: DigiKey Link; ComponentLink2URL: http://digikey.com/product-detail/en/vishay-semiconductor-diodes-division/SMBJ17D-M3-H/SMBJ17D-M3-HGICT-ND/5253065; LastUpdated: 9/2/2020 1:19:44 AM; Lifecycle Status: Active; Minimum Order: 1; Mounting Type: Surface Mount; Operating Temperature: -55°C ~ 150°C (TJ); Package / Case: DO-214AA, SMB; Packaging: TapeAndReel; PartId: 10620; Part Status: Active; Price: 0.15; Series: TransZorb®; Supplier 1: DigiKey; Supplier Part Number 1: SMBJ17D-M3/HGICT-ND; Supplier Device Package: DO-214AA (SMBJ); Voltage - Clamping (Max) @ Ipp: 27.2V; Voltage - Reverse Standoff (Typ): 17V
footprint DO214AA SMB
pins: 1, 2

## SMBJ17D-M3/I
designator D?
TVS DIODE 17V 27.2V DO214AA; Manufacturer: Vishay Semiconductor Diodes Division; Current - Peak Pulse (10/1000µs): 22.1A; Power Line Protection: No; Power - Peak Pulse: 600W; Type: Zener; Unidirectional Channels: 1; Voltage - Breakdown (Min): 19.2V; Part Number: SMBJ17D-M3/I; Applications: General Purpose; ComponentLink1Description: Datasheet; ComponentLink1URL: http://www.vishay.com/docs/87606/87606.pdf; ComponentLink2Description: DigiKey Link; ComponentLink2URL: http://digikey.com/product-detail/en/vishay-semiconductor-diodes-division/SMBJ17D-M3-I/SMBJ17D-M3-IGICT-ND/9648419; LastUpdated: 9/2/2020 1:19:47 AM; Lifecycle Status: Active; Minimum Order: 1; Mounting Type: Surface Mount; Operating Temperature: -55°C ~ 150°C (TJ); Package / Case: DO-214AA, SMB; Packaging: TapeAndReel; PartId: 10940; Part Status: Active; Price: 0.11; Series: TransZorb®; Supplier 1: DigiKey; Supplier Part Number 1: SMBJ17D-M3/IGICT-ND; Supplier Device Package: DO-214AA (SMBJ); Voltage - Clamping (Max) @ Ipp: 27.2V; Voltage - Reverse Standoff (Typ): 17V
footprint DO214AA SMB
pins: 1, 2

## SMBJ18A
designator D?
TVS DIODE 18V 29.2V DO214AA; Manufacturer: Littelfuse Inc.; Current - Peak Pulse (10/1000µs): 20.6A; Power Line Protection: No; Power - Peak Pulse: 600W; Type: Zener; Unidirectional Channels: 1; Voltage - Breakdown (Min): 20V; Part Number: SMBJ18A; Applications: General Purpose; ComponentLink1Description: Datasheet; ComponentLink1URL: https://www.littelfuse.com/~/media/electronics/datasheets/tvs_diodes/littelfuse_tvs_diode_smbj_datasheet.pdf.pdf; ComponentLink2Description: DigiKey Link; ComponentLink2URL: http://digikey.com/product-detail/en/littelfuse-inc/SMBJ18A/SMBJ18ALFCT-ND/285985; LastUpdated: 9/2/2020 1:19:43 AM; Lifecycle Status: Active; Minimum Order: 1; Mounting Type: Surface Mount; Operating Temperature: -65°C ~ 150°C (TJ); Package / Case: DO-214AA, SMB; Packaging: TapeAndReel; PartId: 10563; Part Status: Active; Price: 0.11; Series: SMBJ; Supplier 1: DigiKey; Supplier Part Number 1: SMBJ18ALFCT-ND; Supplier Device Package: DO-214AA (SMBJ); Voltage - Clamping (Max) @ Ipp: 29.2V; Voltage - Reverse Standoff (Typ): 18V
footprint DO214AA SMB
pins: 1, 2

## SMBJ18A-13-F
designator D?
TVS DIODE 18V 29.2V SMB; Manufacturer: Diodes Incorporated; Current - Peak Pulse (10/1000µs): 20.5A; Power Line Protection: No; Power - Peak Pulse: 600W; Type: Zener; Unidirectional Channels: 1; Voltage - Breakdown (Min): 20V; Part Number: SMBJ18A-13-F; Applications: General Purpose; ComponentLink1Description: Datasheet; ComponentLink1URL: https://www.diodes.com/assets/Datasheets/ds19002.pdf; ComponentLink2Description: DigiKey Link; ComponentLink2URL: http://digikey.com/product-detail/en/diodes-incorporated/SMBJ18A-13-F/SMBJ18A-FDICT-ND/816067; LastUpdated: 9/2/2020 1:19:46 AM; Lifecycle Status: Active; Minimum Order: 1; Mounting Type: Surface Mount; Operating Temperature: -55°C ~ 150°C (TJ); Package / Case: DO-214AA, SMB; Packaging: TapeAndReel; PartId: 10830; Part Status: Active; Price: 0.09; Series: SMBJ; Supplier 1: DigiKey; Supplier Part Number 1: SMBJ18A-FDICT-ND; Supplier Device Package: SMB; Voltage - Clamping (Max) @ Ipp: 29.2V; Voltage - Reverse Standoff (Typ): 18V
footprint DO214AA SMB
pins: 1, 2

## SMBJ18A-E3/5B
designator D?
TVS DIODE 18V 29.2V DO214AA; Manufacturer: Vishay Semiconductor Diodes Division; Current - Peak Pulse (10/1000µs): 20.5A; Power Line Protection: No; Power - Peak Pulse: 600W; Type: Zener; Unidirectional Channels: 1; Voltage - Breakdown (Min): 20V; Part Number: SMBJ18A-E3/5B; Applications: General Purpose; ComponentLink1Description: Datasheet; ComponentLink1URL: http://www.vishay.com/docs/88392/smbj.pdf; ComponentLink2Description: DigiKey Link; ComponentLink2URL: http://digikey.com/product-detail/en/vishay-semiconductor-diodes-division/SMBJ18A-E3-5B/SMBJ18A-E3-5BGICT-ND/9601056; LastUpdated: 9/2/2020 1:19:51 AM; Lifecycle Status: Active; Minimum Order: 1; Mounting Type: Surface Mount; Operating Temperature: -55°C ~ 150°C (TJ); Package / Case: DO-214AA, SMB; Packaging: TapeAndReel; PartId: 11395; Part Status: Active; Price: 0.11; Series: TransZorb®; Supplier 1: DigiKey; Supplier Part Number 1: SMBJ18A-E3/5BGICT-ND; Supplier Device Package: DO-214AA (SMBJ); Voltage - Clamping (Max) @ Ipp: 29.2V; Voltage - Reverse Standoff (Typ): 18V
footprint DO214AA SMB
pins: 1, 2

## SMBJ18A-E3/52
designator D?
TVS DIODE 18V 29.2V DO214AA; Manufacturer: Vishay Semiconductor Diodes Division; Current - Peak Pulse (10/1000µs): 20.5A; Power Line Protection: No; Power - Peak Pulse: 600W; Type: Zener; Unidirectional Channels: 1; Voltage - Breakdown (Min): 20V; Part Number: SMBJ18A-E3/52; Applications: General Purpose; ComponentLink1Description: Datasheet; ComponentLink1URL: http://www.vishay.com/docs/88392/smbj.pdf; ComponentLink2Description: DigiKey Link; ComponentLink2URL: http://digikey.com/product-detail/en/vishay-semiconductor-diodes-division/SMBJ18A-E3-52/SMBJ18A-E3-52GICT-ND/2413378; LastUpdated: 9/2/2020 1:19:49 AM; Lifecycle Status: Active; Minimum Order: 1; Mounting Type: Surface Mount; Operating Temperature: -55°C ~ 150°C (TJ); Package / Case: DO-214AA, SMB; Packaging: TapeAndReel; PartId: 11105; Part Status: Active; Price: 0.15; Series: TransZorb®; Supplier 1: DigiKey; Supplier Part Number 1: SMBJ18A-E3/52GICT-ND; Supplier Device Package: DO-214AA (SMBJ); Voltage - Clamping (Max) @ Ipp: 29.2V; Voltage - Reverse Standoff (Typ): 18V
footprint DO214AA SMB
pins: 1, 2

## SMBJ18A-TP
designator D?
TVS DIODE 18V 29.2V DO214AA; Manufacturer: Micro Commercial Co; Current - Peak Pulse (10/1000µs): 20.5A; Power Line Protection: No; Power - Peak Pulse: 600W; Type: Zener; Unidirectional Channels: 1; Voltage - Breakdown (Min): 20V; Part Number: SMBJ18A-TP; Applications: General Purpose; ComponentLink1Description: Datasheet; ComponentLink1URL: https://www.mccsemi.com/pdf/Products/SMBJ5.0-SMBJ440CA(DO-214AA).pdf; ComponentLink2Description: DigiKey Link; ComponentLink2URL: http://digikey.com/product-detail/en/micro-commercial-co/SMBJ18A-TP/SMBJ18A-TPMSCT-ND/1200664; LastUpdated: 9/2/2020 1:19:48 AM; Lifecycle Status: Active; Minimum Order: 1; Mounting Type: Surface Mount; Operating Temperature: -55°C ~ 175°C (TJ); Package / Case: DO-214AA, SMB; Packaging: TapeAndReel; PartId: 11072; Part Status: Active; Price: 0.10; Series: -; Supplier 1: DigiKey; Supplier Part Number 1: SMBJ18A-TPMSCT-ND; Supplier Device Package: DO-214AA (SMB); Voltage - Clamping (Max) @ Ipp: 29.2V; Voltage - Reverse Standoff (Typ): 18V
footprint DO214AA SMB
pins: 1, 2

## SMBJ18A-TR
designator D?
TVS DIODE 18V 39.3V SMB; Manufacturer: STMicroelectronics; Current - Peak Pulse (10/1000µs): 21.5A; Power Line Protection: No; Power - Peak Pulse: 600W; Type: Zener; Unidirectional Channels: 1; Voltage - Breakdown (Min): 20V; Voltage - Clamping (Max) @ Ipp: 29.2V; Part Number: SMBJ18A-TR; Applications: General Purpose; ComponentLink1Description: Datasheet; ComponentLink1URL: http://www.st.com/content/ccc/resource/technical/document/datasheet/19/78/91/39/07/cd/40/65/CD00001366.pdf/files/CD00001366.pdf/_jcr_content/translations/en.CD00001366.pdf; ComponentLink2Description: DigiKey Link; ComponentLink2URL: http://digikey.com/product-detail/en/stmicroelectronics/SMBJ18A-TR/497-3139-1-ND/654454; LastUpdated: 9/2/2020 1:19:50 AM; Lifecycle Status: Active; Minimum Order: 1; Mounting Type: Surface Mount; Operating Temperature: -55°C ~ 150°C (TJ); Package / Case: DO-214AA, SMB; Packaging: TapeAndReel; PartId: 11214; Part Status: Active; Price: 0.12; Series: SMBJ, TRANSIL™; Supplier 1: DigiKey; Supplier Part Number 1: 497-3139-1-ND; Supplier Device Package: SMB (DO-214AA); Voltage - Reverse Standoff (Typ): 18V
footprint DO214AA SMB
pins: 1, 2

## SMBJ18AQ-13-F
designator D?
TRANSIENT VOLTAGE SUPPRESSOR,SMB; Manufacturer: Diodes Incorporated; Current - Peak Pulse (10/1000µs): 20.5A; Power Line Protection: No; Power - Peak Pulse: 600W; Type: Zener; Unidirectional Channels: 1; Voltage - Breakdown (Min): 20V; Voltage - Clamping (Max) @ Ipp: 29.2V; Voltage - Reverse Standoff (Typ): 18V; Part Number: SMBJ18AQ-13-F; Applications: Automotive; ComponentLink1Description: Datasheet; ComponentLink1URL: https://www.diodes.com/assets/Datasheets/ds40740.pdf; ComponentLink2Description: DigiKey Link; ComponentLink2URL: http://digikey.com/product-detail/en/diodes-incorporated/SMBJ18AQ-13-F/SMBJ18AQ-13-FDICT-ND/9738911; LastUpdated: 9/2/2020 1:19:49 AM; Lifecycle Status: Active; Minimum Order: 1; Mounting Type: Surface Mount; Operating Temperature: -55°C ~ 150°C (TJ); Package / Case: DO-214AA, SMB; Packaging: TapeAndReel; PartId: 11166; Part Status: Active; Price: 0.13; Series: Automotive, AEC-Q101; Supplier 1: DigiKey; Supplier Part Number 1: SMBJ18AQ-13-FDICT-ND; Supplier Device Package: SMB
footprint DO214AA SMB
pins: 1, 2

## SMBJ18CA
designator D?
TVS DIODE 18V 29.2V SMB; Manufacturer: Bourns Inc.; Bidirectional Channels: 1; Current - Peak Pulse (10/1000µs): 20.6A; Power Line Protection: No; Power - Peak Pulse: 600W; Type: Zener; Voltage - Breakdown (Min): 20V; Part Number: SMBJ18CA; Applications: General Purpose; ComponentLink1Description: Datasheet; ComponentLink1URL: https://www.bourns.com/docs/Product-Datasheets/SMBJ.pdf; ComponentLink2Description: DigiKey Link; ComponentLink2URL: http://digikey.com/product-detail/en/bourns-inc/SMBJ18CA/SMBJ18CABCT-ND/2254206; LastUpdated: 9/2/2020 1:28:16 AM; Lifecycle Status: Active; Minimum Order: 1; Mounting Type: Surface Mount; Operating Temperature: -55°C ~ 150°C (TJ); Package / Case: DO-214AA, SMB; Packaging: TapeAndReel; PartId: 8982; Part Status: Active; Price: 0.10; Series: SMBJ; Supplier 1: DigiKey; Supplier Part Number 1: SMBJ18CABCT-ND; Supplier Device Package: SMB (DO-214AA); Voltage - Clamping (Max) @ Ipp: 29.2V; Voltage - Reverse Standoff (Typ): 18V
footprint DO214AA SMB
pins: 1, 2

## SMBJ18CA R5G
designator D?
TVS DIODE 18V 29.2V DO214AA; Manufacturer: Taiwan Semiconductor Corporation; Bidirectional Channels: 1; Current - Peak Pulse (10/1000µs): 21.5A; Power Line Protection: No; Power - Peak Pulse: 600W; Type: Zener; Voltage - Breakdown (Min): 20V; Part Number: SMBJ18CA R5G; Applications: General Purpose; ComponentLink1Description: Datasheet; ComponentLink1URL: https://www.taiwansemi.com/products/datasheet/SMBJ5V0CA_F%20SERIES_A1806.pdf; ComponentLink2Description: DigiKey Link; ComponentLink2URL: http://digikey.com/product-detail/en/taiwan-semiconductor-corporation/SMBJ18CA-R5G/SMBJ18CAR5GCT-ND/7359093; LastUpdated: 9/2/2020 1:28:17 AM; Lifecycle Status: Active; Minimum Order: 1; Mounting Type: Surface Mount; Operating Temperature: -55°C ~ 150°C (TJ); Package / Case: DO-214AA, SMB; Packaging: TapeAndReel; PartId: 9096; Part Status: Active; Price: 0.27; Series: SMBJ; Supplier 1: DigiKey; Supplier Part Number 1: SMBJ18CAR5GCT-ND; Supplier Device Package: DO-214AA (SMB); Voltage - Clamping (Max) @ Ipp: 29.2V; Voltage - Reverse Standoff (Typ): 18V
footprint DO214AA SMB
pins: 1, 2

## SMBJ18CA-13-F
designator D?
TVS DIODE 18V 29.2V SMB; Manufacturer: Diodes Incorporated; Bidirectional Channels: 1; Current - Peak Pulse (10/1000µs): 20.5A; Power Line Protection: No; Power - Peak Pulse: 600W; Type: Zener; Voltage - Breakdown (Min): 20V; Part Number: SMBJ18CA-13-F; Applications: General Purpose; ComponentLink1Description: Datasheet; ComponentLink1URL: https://www.diodes.com/assets/Datasheets/ds19002.pdf; ComponentLink2Description: DigiKey Link; ComponentLink2URL: http://digikey.com/product-detail/en/diodes-incorporated/SMBJ18CA-13-F/SMBJ18CA-FDICT-ND/804912; LastUpdated: 9/2/2020 1:28:19 AM; Lifecycle Status: Active; Minimum Order: 1; Mounting Type: Surface Mount; Operating Temperature: -55°C ~ 150°C (TJ); Package / Case: DO-214AA, SMB; Packaging: TapeAndReel; PartId: 9293; Part Status: Active; Price: 0.10; Series: SMBJ; Supplier 1: DigiKey; Supplier Part Number 1: SMBJ18CA-FDICT-ND; Supplier Device Package: SMB; Voltage - Clamping (Max) @ Ipp: 29.2V; Voltage - Reverse Standoff (Typ): 18V
footprint DO214AA SMB
pins: 1, 2

## SMBJ18CA-E3/5B
designator D?
TVS DIODE 18V 29.2V DO214AA; Manufacturer: Vishay Semiconductor Diodes Division; Bidirectional Channels: 1; Current - Peak Pulse (10/1000µs): 20.5A; Power Line Protection: No; Power - Peak Pulse: 600W; Type: Zener; Voltage - Breakdown (Min): 20V; Part Number: SMBJ18CA-E3/5B; Applications: General Purpose; ComponentLink1Description: Datasheet; ComponentLink1URL: http://www.vishay.com/docs/88392/smbj.pdf; ComponentLink2Description: DigiKey Link; ComponentLink2URL: http://digikey.com/product-detail/en/vishay-semiconductor-diodes-division/SMBJ18CA-E3-5B/SMBJ18CA-E3-5BGICT-ND/9601057; LastUpdated: 9/2/2020 1:28:19 AM; Lifecycle Status: Active; Minimum Order: 1; Mounting Type: Surface Mount; Operating Temperature: -55°C ~ 150°C (TJ); Package / Case: DO-214AA, SMB; Packaging: TapeAndReel; PartId: 9230; Part Status: Active; Price: 0.12; Series: TransZorb®; Supplier 1: DigiKey; Supplier Part Number 1: SMBJ18CA-E3/5BGICT-ND; Supplier Device Package: DO-214AA (SMBJ); Voltage - Clamping (Max) @ Ipp: 29.2V; Voltage - Reverse Standoff (Typ): 18V
footprint DO214AA SMB
pins: 1, 2

## SMBJ18CA-E3/52
designator D?
TVS DIODE 18V 29.2V DO214AA; Manufacturer: Vishay Semiconductor Diodes Division; Bidirectional Channels: 1; Current - Peak Pulse (10/1000µs): 20.5A; Power Line Protection: No; Power - Peak Pulse: 600W; Type: Zener; Voltage - Breakdown (Min): 20V; Part Number: SMBJ18CA-E3/52; Applications: General Purpose; ComponentLink1Description: Datasheet; ComponentLink1URL: http://www.vishay.com/docs/88392/smbj.pdf; ComponentLink2Description: DigiKey Link; ComponentLink2URL: http://digikey.com/product-detail/en/vishay-semiconductor-diodes-division/SMBJ18CA-E3-52/SMBJ18CA-E3-52GICT-ND/2413363; LastUpdated: 9/2/2020 1:28:16 AM; Lifecycle Status: Active; Minimum Order: 1; Mounting Type: Surface Mount; Operating Temperature: -55°C ~ 150°C (TJ); Package / Case: DO-214AA, SMB; Packaging: TapeAndReel; PartId: 8952; Part Status: Active; Price: 0.19; Series: TransZorb®; Supplier 1: DigiKey; Supplier Part Number 1: SMBJ18CA-E3/52GICT-ND; Supplier Device Package: DO-214AA (SMBJ); Voltage - Clamping (Max) @ Ipp: 29.2V; Voltage - Reverse Standoff (Typ): 18V
footprint DO214AA SMB
pins: 1, 2

## SMBJ18CA-TP
designator D?
TVS DIODE 18V 29.2V DO214AA; Manufacturer: Micro Commercial Co; Bidirectional Channels: 1; Current - Peak Pulse (10/1000µs): 20.5A; Power Line Protection: No; Power - Peak Pulse: 600W; Type: Zener; Voltage - Breakdown (Min): 20V; Part Number: SMBJ18CA-TP; Applications: General Purpose; ComponentLink1Description: Datasheet; ComponentLink1URL: https://www.mccsemi.com/pdf/Products/SMBJ5.0-SMBJ440CA(DO-214AA).pdf; ComponentLink2Description: DigiKey Link; ComponentLink2URL: http://digikey.com/product-detail/en/micro-commercial-co/SMBJ18CA-TP/SMBJ18CA-TPMSCT-ND/1200665; LastUpdated: 9/2/2020 1:28:18 AM; Lifecycle Status: Active; Minimum Order: 1; Mounting Type: Surface Mount; Operating Temperature: -55°C ~ 175°C (TJ); Package / Case: DO-214AA, SMB; Packaging: TapeAndReel; PartId: 9118; Part Status: Active; Price: 0.10; Series: -; Supplier 1: DigiKey; Supplier Part Number 1: SMBJ18CA-TPMSCT-ND; Supplier Device Package: DO-214AA (SMB); Voltage - Clamping (Max) @ Ipp: 29.2V; Voltage - Reverse Standoff (Typ): 18V
footprint DO214AA SMB
pins: 1, 2

## SMBJ18CA-TR
designator D?
TVS DIODE 18V 39.3V SMB; Manufacturer: STMicroelectronics; Bidirectional Channels: 1; Current - Peak Pulse (10/1000µs): 21.5A; Power Line Protection: No; Power - Peak Pulse: 600W; Type: Zener; Voltage - Breakdown (Min): 20V; Voltage - Clamping (Max) @ Ipp: 29.2V; Part Number: SMBJ18CA-TR; Applications: General Purpose; ComponentLink1Description: Datasheet; ComponentLink1URL: http://www.st.com/content/ccc/resource/technical/document/datasheet/19/78/91/39/07/cd/40/65/CD00001366.pdf/files/CD00001366.pdf/_jcr_content/translations/en.CD00001366.pdf; ComponentLink2Description: DigiKey Link; ComponentLink2URL: http://digikey.com/product-detail/en/stmicroelectronics/SMBJ18CA-TR/497-6512-1-ND/1865345; LastUpdated: 9/2/2020 1:28:19 AM; Lifecycle Status: Active; Minimum Order: 1; Mounting Type: Surface Mount; Operating Temperature: -55°C ~ 150°C (TJ); Package / Case: DO-214AA, SMB; Packaging: TapeAndReel; PartId: 9250; Part Status: Active; Price: 0.10; Series: SMBJ, TRANSIL™; Supplier 1: DigiKey; Supplier Part Number 1: 497-6512-1-ND; Supplier Device Package: SMB (DO-214AA); Voltage - Reverse Standoff (Typ): 18V
footprint DO214AA SMB
pins: 1, 2

## SMBJ18CAQ-13-F
designator D?
TRANSIENT VOLTAGE SUPPRESSOR,SMB; Manufacturer: Diodes Incorporated; Bidirectional Channels: 1; Current - Peak Pulse (10/1000µs): 20.5A; Power Line Protection: No; Power - Peak Pulse: 600W; Type: Zener; Voltage - Breakdown (Min): 20V; Voltage - Clamping (Max) @ Ipp: 29.2V; Voltage - Reverse Standoff (Typ): 18V; Part Number: SMBJ18CAQ-13-F; Applications: Automotive; ComponentLink1Description: Datasheet; ComponentLink1URL: https://www.diodes.com/assets/Datasheets/ds40740.pdf; ComponentLink2Description: DigiKey Link; ComponentLink2URL: http://digikey.com/product-detail/en/diodes-incorporated/SMBJ18CAQ-13-F/SMBJ18CAQ-13-FDICT-ND/9738924; LastUpdated: 9/2/2020 1:28:17 AM; Lifecycle Status: Active; Minimum Order: 1; Mounting Type: Surface Mount; Operating Temperature: -55°C ~ 150°C (TJ); Package / Case: DO-214AA, SMB; Packaging: TapeAndReel; PartId: 9070; Part Status: Active; Price: 0.14; Series: Automotive, AEC-Q101; Supplier 1: DigiKey; Supplier Part Number 1: SMBJ18CAQ-13-FDICT-ND; Supplier Device Package: SMB
footprint DO214AA SMB
pins: 1, 2